# EAGLE library part LTC3260EMSE#PBF (library LTC3260EMSE_PBF)
Check availability <https://pricing.snapeda.com/parts/LTC3260EMSE%23PBF/Analog%20Devices/view-part?ref=eda>
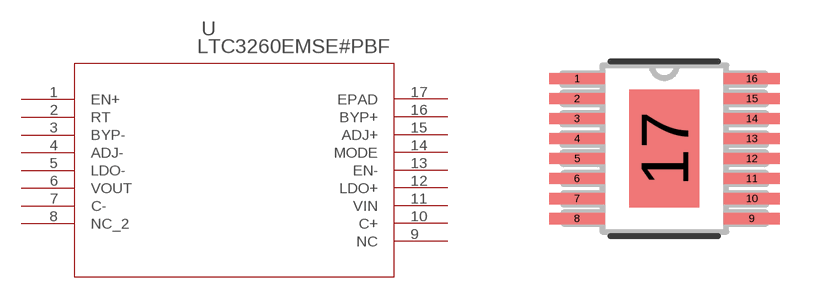
[diagram p0: symbol with the pads of MSOP-16_MSE; footprint MSOP-16_MSE]

Designator prefix U

## LTC3260EMSE#PBF (AVAILABILITY: In Stock; CHECK_PRICES: https://www.snapeda.com/parts/LTC3260EMSE%23PBF/Analog+Devices/view-part/?ref=eda; DESCRIPTION: Low Noise Dual Supply Inverting Charge Pump; MF: Analog Devices; MP: LTC3260EMSE#PBF; PACKAGE: MSOP -16 Analog Devices; PRICE: None; PURCHASE-URL: https://www.snapeda.com/api/url_track_click_mouser/?unipart_id=4339513&manufacturer=Analog Devices&part_name=LTC3260EMSE#PBF&search_term=None; SNAPEDA_LINK: https://www.snapeda.com/parts/LTC3260EMSE%23PBF/Analog+Devices/view-part/?ref=snap)  [MSOP-16_MSE]
1  EN+  in
2  RT  in
3  BYP-  out
4  ADJ-  in
5  LDO-  out
6  VOUT  out
7  C-  pas
8  NC_2  nc
9  NC  nc
10  C+  pas
11  VIN  in
12  LDO+  out
13  EN-  in
14  MODE  in
15  ADJ+  in
16  BYP+  out
17  EPAD  pas

## Footprint MSOP-16_MSE (pad centres in mm)
smd 1.397 x 0.279: 1 -2.184,1.751; 2 -2.184,1.251; 3 -2.184,0.751; 4 -2.184,0.25; 5 -2.184,-0.25; 6 -2.184,-0.751; 7 -2.184,-1.251; 8 -2.184,-1.751; 9 2.184,-1.751; 10 2.184,-1.251; 11 2.184,-0.751; 12 2.184,-0.25; 13 2.184,0.25; 14 2.184,0.751; 15 2.184,1.251; 16 2.184,1.751
smd 1.753 x 2.946: 17 0,0